# EAGLE library part LT1014 (library opamps)
LT1014: Quad opamp (Linear Technology) ±15V, ±12mA, 30nA bias 800µV offset, 500kHz UGF, 24nV/rt(Hz) noise
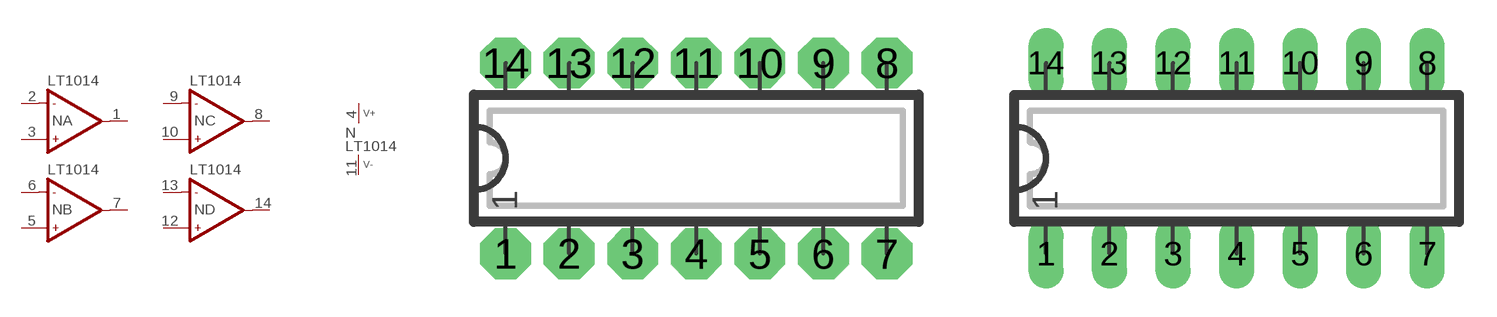
[diagram p131: symbol with the pads of DIP14N; footprints DIP14N, DIP14L]

Designator prefix N; gates A=OP-NAME B=OP-NAME C=OP-NAME D=OP-NAME P=V+-

## LT1014N  [DIP14N]
1  A:OUT  out
2  A:IN-  in
3  A:IN+  in
4  P:V+  pwr
5  B:IN+  in
6  B:IN-  in
7  B:OUT  out
8  C:OUT  out
9  C:IN-  in
10  C:IN+  in
11  P:V-  pwr
12  D:IN+  in
13  D:IN-  in
14  D:OUT  out

## LT1014L  [DIP14L]
Pads as for DIP14N

## LT1014  [DIP14L]
Pads as for DIP14N

## LT1014R  [DIP14R]
Pads as for DIP14N

## Footprint DIP14N (pad centres in mm)
DIP-14 Standard IC package, 14 pins
drill 0.813 pad 2.032 octagon: 1 -7.62,-3.81; 2 -5.08,-3.81; 3 -2.54,-3.81; 4 0,-3.81; 5 2.54,-3.81; 6 5.08,-3.81; 7 7.62,-3.81; 8 7.62,3.81; 9 5.08,3.81; 10 2.54,3.81; 11 0,3.81; 12 -2.54,3.81; 13 -5.08,3.81; 14 -7.62,3.81

## Footprint DIP14L (pad centres in mm)
DIP-14, long pads Standard IC package, 14 pins
drill 0.813 pad 1.397 long: 1 -7.62,-3.81; 2 -5.08,-3.81; 3 -2.54,-3.81; 4 0,-3.81; 5 2.54,-3.81; 6 5.08,-3.81; 7 7.62,-3.81; 8 7.62,3.81; 9 5.08,3.81; 10 2.54,3.81; 11 0,3.81; 12 -2.54,3.81; 13 -5.08,3.81; 14 -7.62,3.81

## Footprint DIP14R (pad centres in mm)
DIP-14, reduced pads Standard IC package, 14 pins
drill 0.813 pad 1.27 square: 1 -7.62,-3.81
drill 0.813 pad 1.397 square: 2 -5.08,-3.81; 3 -2.54,-3.81; 4 0,-3.81; 5 2.54,-3.81; 6 5.08,-3.81; 7 7.62,-3.81; 8 7.62,3.81; 9 5.08,3.81; 10 2.54,3.81; 11 0,3.81; 12 -2.54,3.81; 13 -5.08,3.81; 14 -7.62,3.81